# Altium footprint library DiodesInc.PcbLib: 2 footprints
Each footprint in its own frame and in the unit in brackets; x right, y up, seen from the top. Pads: shape width x height; smd on the part's side, far side on the other; paste and mask are expansions set on the pad; w line width, h text height; cw(c..) or ccw(c..) is an arc to the next point about the centre after c.
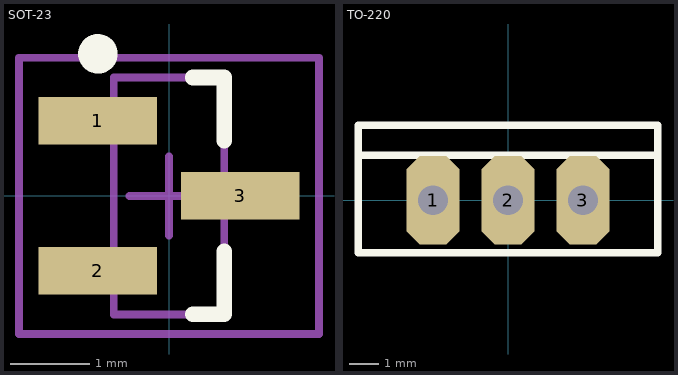
[diagram p0: the footprints below, top view; thin cyan lines are the x and y axes]

## SOT-23 [mm] "SOT23, 3-Leads, Body 3.0x2.5mm (max), Pitch 0.95mm, IPC Medium Density"
height 1.1
pads (3):
  rect 1.5x0.6 smd: 1(-0.9,0.95) 2(-0.9,-0.95) 3(0.9,0)
Top Overlay:
  circle w0.25: c-0.9,1.8 r0.125
  lines w0.2: 0.3,-1.5 0.7,-1.5 0.7,-0.7 ; 0.3,1.5 0.7,1.5 0.7,0.7
Mechanical 13:
  lines w0.1: -0.7,-1.5 0.7,-1.5 0.7,1.5 -0.7,1.5 -0.7,-1.5
Mechanical 15:
  lines w0.1: -0.5,0 0.5,0 ; 0,-0.5 0,0.5 ; -1.9,-1.75 1.9,-1.75 1.9,1.75 -1.9,1.75 -1.9,-1.75
3D body: height 1.1, standoff 0.05, extent -0.7,-1.5 0.7,1.5

## TO-220 [mm]
pads (3):
  oct 1.8x3 hole 1: 1(-2.54,0) 2(0,0) 3(2.54,0)
Top Overlay:
  lines w0.254: -5.08,1.524 5.08,1.524 ; -5.08,1.524 -5.08,-1.778 5.08,-1.778 5.08,1.524 ; -5.08,1.524 5.08,1.524 ; -5.08,1.524 -5.08,2.54 5.08,2.54 5.08,1.524
3D body: height 14, standoff 5, extent -5.079,-1.777 5.079,2.54
3D body: height 20.35, standoff 5, extent -4.953,1.525 4.953,2.539
3D body: height 5, standoff 0, extent -0.635,-0.127 0.635,0.127
3D body: height 5, standoff 0, extent 1.905,-0.127 3.175,0.127
3D body: height 5, standoff 0, extent -3.175,-0.127 -1.905,0.127